# Altium footprint library MOLEX-PB-10.PcbLib: 1 footprints
Each footprint in its own frame and in the unit in brackets; x right, y up, seen from the top. Pads: shape width x height; smd on the part's side, far side on the other; paste and mask are expansions set on the pad; w line width, h text height; cw(c..) or ccw(c..) is an arc to the next point about the centre after c.
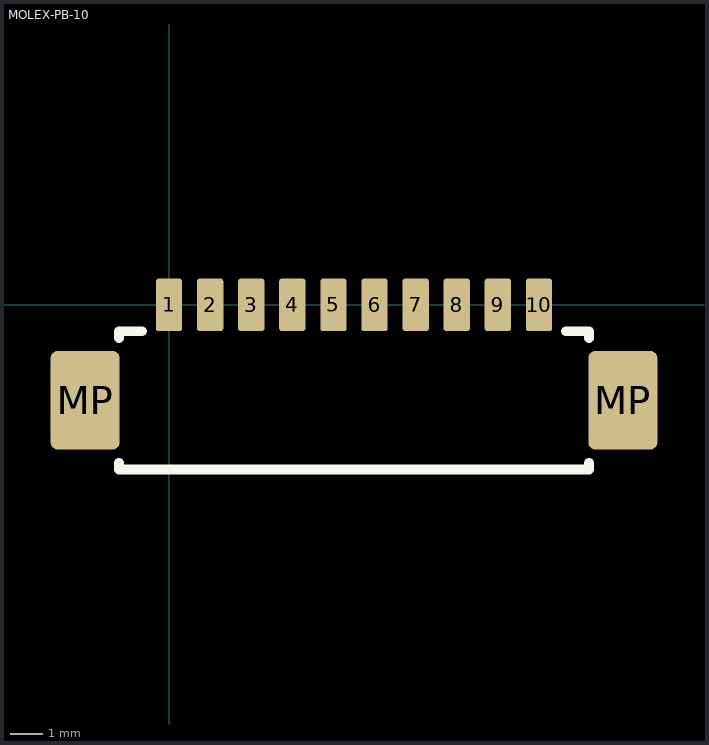
[diagram p0: the footprint, top view; thin cyan lines are the x and y axes]

## MOLEX-PB-10 [mm]
pads (12):
  rrect20% 0.8x1.6 smd: 1(0,0) 2(1.25,0) 3(2.5,0) 4(3.75,0) 5(5,0) 6(6.25,0) 7(7.5,0) 8(8.75,0) 9(10,0) 10(11.25,0)
  rrect20% 2.1x3 smd: MP(-2.55,-2.9) MP(13.8,-2.9)
Top Overlay:
  lines w0.3: -1.525,-4.8 -1.525,-5 12.775,-5 12.775,-4.8 ; -1.525,-1 -1.525,-0.8 -0.825,-0.8 ; 12.075,-0.8 12.775,-0.8 12.775,-1